# Altium schematic symbol library ESP32.SchLib: 2 symbols
Pins are listed as number, name and electrical type; pins without a type are passive.

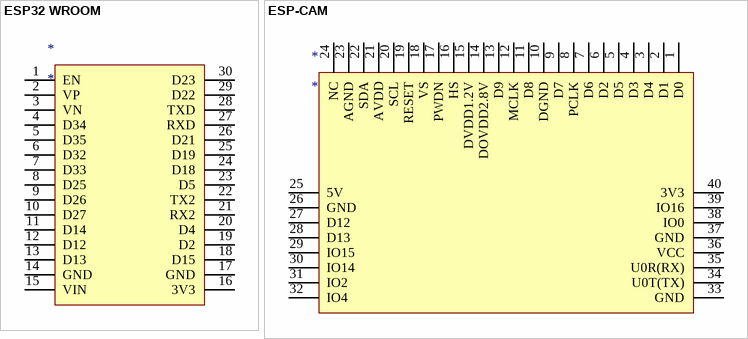
[diagram p0: symbols ESP32 WROOM to ESP-CAM]

## ESP32 WROOM
designator *
pins: 1 EN, 2 VP, 3 VN, 4 D34, 5 D35, 6 D32, 7 D33, 8 D25, 9 D26, 10 D27, 11 D14, 12 D12, 13 D13, 14 GND, 15 VIN, 16 3V3, 17 GND, 18 D15, 19 D2, 20 D4, 21 RX2, 22 TX2, 23 D5, 24 D18, 25 D19, 26 D21, 27 RXD, 28 TXD, 29 D22, 30 D23

## ESP-CAM
designator *
pins: 1 D0, 2 D1, 3 D4, 4 D3, 5 D5, 6 D2, 7 D6, 8 PCLK, 9 D7, 10 DGND, 11 D8, 12 MCLK, 13 D9, 14 DOVDD2.8V, 15 DVDD1.2V, 16 HS, 17 PWDN, 18 VS, 19 RESET, 20 SCL, 21 AVDD, 22 SDA, 23 AGND, 24 NC, 25 5V, 26 GND, 27 D12, 28 D13, 29 IO15, 30 IO14, 31 IO2, 32 IO4, 33 GND, 34 U0T(TX), 35 U0R(RX), 36 VCC, 37 GND, 38 IO0, 39 IO16, 40 3V3